# Altium footprint library SBHXLogo.PcbLib: 1 footprints
Each footprint in its own frame and in the unit in brackets; x right, y up, seen from the top. Pads: shape width x height; smd on the part's side, far side on the other; paste and mask are expansions set on the pad; w line width, h text height; cw(c..) or ccw(c..) is an arc to the next point about the centre after c.
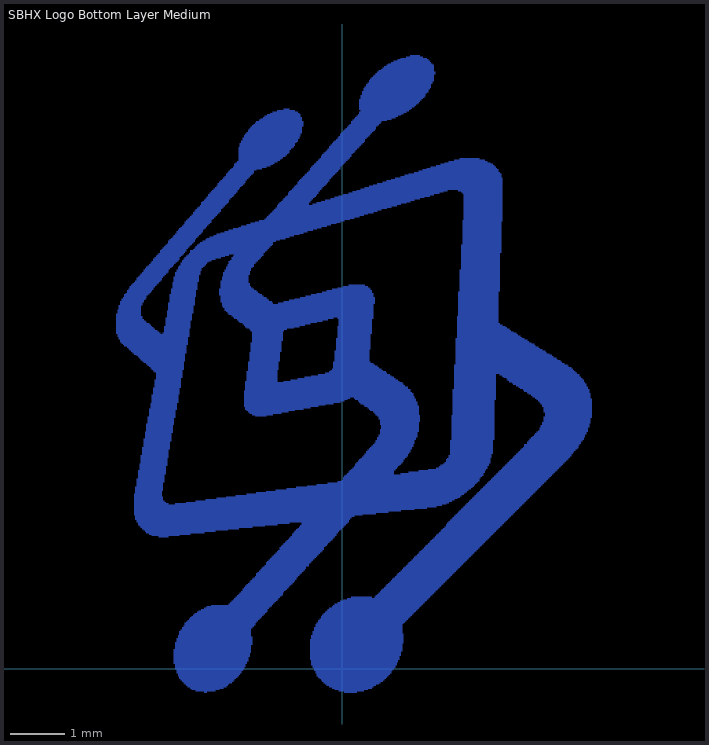
[diagram p0: the footprint, top view; thin cyan lines are the x and y axes]

## SBHX Logo Bottom Layer Medium [mm]
Bottom Layer:
  lines w0.025: -4.178,6.198 -3.365,6.198 ; -4.178,6.223 -3.391,6.223 ; -4.178,6.248 -3.416,6.248 ; -4.178,6.274 -3.467,6.274 ; -4.178,6.299 -3.492,6.299 ; -4.178,6.325 -3.518,6.325 ; -4.178,6.35 -3.543,6.35 ; -4.178,6.375 -3.569,6.375 ; -4.178,6.401 -3.619,6.401 ; -4.178,6.426 -3.645,6.426 ; -4.178,6.452 -3.67,6.452 ; -4.178,6.477 -3.696,6.477 ; -4.178,6.502 -3.696,6.502 ; -4.178,6.528 -3.721,6.528 ; -4.178,6.553 -3.721,6.553 ; -4.153,6.147 -2.832,6.147 ; -4.153,6.172 -2.832,6.172 ; -4.153,6.579 -3.721,6.579 ; -4.153,6.604 -3.721,6.604 ; -4.153,6.629 -3.721,6.629 ; -4.127,6.096 -2.857,6.096 ; -4.127,6.121 -2.857,6.121 ; -4.127,6.655 -3.721,6.655 ; -4.127,6.68 -3.721,6.68 ; -4.127,6.706 -3.721,6.706 ; -4.102,6.045 -2.857,6.045 ; -4.102,6.071 -2.857,6.071 ; -4.102,6.731 -3.696,6.731 ; -4.102,6.756 -3.696,6.756 ; -4.102,6.782 -3.67,6.782 ; -4.077,6.02 -2.857,6.02 ; -4.077,6.807 -3.67,6.807 ; -4.077,6.833 -3.645,6.833 ; -4.051,5.994 -2.857,5.994 ; -4.051,6.858 -3.619,6.858 ; -4.026,5.969 -2.883,5.969 ; -4.026,6.883 -3.619,6.883 ; -4.026,6.909 -3.594,6.909 ; -4,6.934 -3.569,6.934 ; -3.975,5.944 -2.883,5.944 ; -3.975,6.96 -3.543,6.96 ; -3.975,6.985 -3.518,6.985 ; -3.95,5.918 -2.883,5.918 ; -3.95,7.01 -3.492,7.01 ; -3.924,5.893 -2.883,5.893 ; -3.924,7.036 -3.492,7.036 ; -3.924,7.061 -3.467,7.061 ; -3.899,5.867 -2.883,5.867 ; -3.899,7.087 -3.442,7.087 ; -3.873,5.842 -2.883,5.842 ; -3.873,7.112 -3.416,7.112 ; -3.848,2.845 0.368,2.845 ; -3.848,2.87 0.622,2.87 ; -3.848,2.896 0.851,2.896 ; -3.848,2.921 1.079,2.921 ; -3.848,2.946 1.333,2.946 ; -3.848,2.972 1.562,2.972 ; -3.848,2.997 1.74,2.997 ; -3.848,3.023 1.841,3.023 ; -3.848,3.048 -3.213,3.048 ; -3.848,3.073 -3.264,3.073 ; -3.848,3.099 -3.289,3.099 ; -3.848,3.124 -3.315,3.124 ; -3.848,3.15 -3.315,3.15 ; -3.848,3.175 -3.315,3.175 ; -3.848,3.2 -3.34,3.2 ; -3.848,3.226 -3.34,3.226 ; -3.848,5.817 -2.908,5.817 ; -3.848,7.137 -3.391,7.137 ; -3.823,2.769 0.14,2.769 ; -3.823,2.794 0.165,2.794 ; -3.823,2.819 0.216,2.819 ; -3.823,3.251 -3.34,3.251 ; -3.823,3.277 -3.34,3.277 ; -3.823,3.302 -3.315,3.302 ; -3.823,3.327 -3.315,3.327 ; -3.823,3.353 -3.315,3.353 ; -3.823,7.163 -3.365,7.163 ; -3.797,2.718 0.114,2.718 ; -3.797,2.743 0.114,2.743 ; -3.797,3.378 -3.315,3.378 ; -3.797,3.404 -3.315,3.404 ; -3.797,3.429 -3.315,3.429 ; -3.797,3.454 -3.289,3.454 ; -3.797,3.48 -3.289,3.48 ; -3.797,3.505 -3.289,3.505 ; -3.797,5.791 -2.908,5.791 ; -3.797,7.188 -3.34,7.188 ; -3.797,7.214 -3.34,7.214 ; -3.772,2.667 -1.206,2.667 ; -3.772,2.692 -0.978,2.692 ; -3.772,3.531 -3.289,3.531 ; -3.772,3.556 -3.289,3.556 ; -3.772,3.581 -3.289,3.581 ; -3.772,3.607 -3.264,3.607 ; -3.772,3.632 -3.264,3.632 ; -3.772,3.658 -3.264,3.658 ; -3.772,5.766 -2.908,5.766 ; -3.772,7.239 -3.315,7.239 ; -3.746,2.642 -1.435,2.642 ; -3.746,3.683 -3.264,3.683 ; -3.746,3.708 -3.264,3.708 ; -3.746,3.734 -3.264,3.734 ; -3.746,3.759 -3.238,3.759 ; -3.746,3.785 -3.238,3.785 ; -3.746,5.74 -2.908,5.74 ; -3.746,7.264 -3.289,7.264 ; -3.721,2.616 -1.664,2.616 ; -3.721,3.81 -3.238,3.81 ; -3.721,3.835 -3.238,3.835 ; -3.721,3.861 -3.238,3.861 ; -3.721,3.886 -3.238,3.886 ; -3.721,3.912 -3.213,3.912 ; -3.721,3.937 -3.213,3.937 ; -3.721,5.715 -2.908,5.715 ; -3.721,7.29 -3.264,7.29 ; -3.696,2.591 -1.918,2.591 ; -3.696,3.962 -3.213,3.962 ; -3.696,3.988 -3.213,3.988 ; -3.696,4.013 -3.213,4.013 ; -3.696,4.039 -3.213,4.039 ; -3.696,4.064 -3.188,4.064 ; -3.696,4.089 -3.188,4.089 ; -3.696,5.69 -2.908,5.69 ; -3.696,7.315 -3.238,7.315 ; -3.67,2.565 -2.121,2.565 ; -3.67,4.115 -3.188,4.115 ; -3.67,4.14 -3.188,4.14 ; -3.67,4.166 -3.188,4.166 ; -3.67,4.191 -3.188,4.191 ; -3.67,4.216 -3.162,4.216 ; -3.67,4.242 -3.162,4.242 ; -3.67,5.664 -2.934,5.664 ; -3.67,7.341 -3.213,7.341 ; -3.67,7.366 -3.213,7.366 ; -3.645,2.54 -2.349,2.54 ; -3.645,4.267 -3.162,4.267 ; -3.645,4.293 -3.162,4.293 ; -3.645,4.318 -3.162,4.318 ; -3.645,4.343 -3.162,4.343 ; -3.645,4.369 -3.137,4.369 ; -3.645,7.391 -3.188,7.391 ; -3.619,2.515 -2.553,2.515 ; -3.619,4.394 -3.137,4.394 ; -3.619,4.42 -3.137,4.42 ; -3.619,4.445 -3.137,4.445 ; -3.619,4.47 -3.137,4.47 ; -3.619,4.496 -3.137,4.496 ; -3.619,4.521 -3.111,4.521 ; -3.619,5.639 -2.934,5.639 ; -3.619,7.417 -3.162,7.417 ; -3.594,4.547 -3.111,4.547 ; -3.594,4.572 -3.111,4.572 ; -3.594,4.597 -3.111,4.597 ; -3.594,4.623 -3.111,4.623 ; -3.594,4.648 -3.086,4.648 ; -3.594,5.613 -2.934,5.613 ; -3.594,7.442 -3.137,7.442 ; -3.569,2.489 -2.807,2.489 ; -3.569,4.674 -3.086,4.674 ; -3.569,4.699 -3.086,4.699 ; -3.569,4.724 -3.086,4.724 ; -3.569,4.75 -3.086,4.75 ; -3.569,4.775 -3.086,4.775 ; -3.569,4.801 -3.061,4.801 ; -3.569,5.588 -2.934,5.588 ; -3.569,7.468 -3.111,7.468 ; -3.543,4.826 -3.061,4.826 ; -3.543,4.851 -3.061,4.851 ; -3.543,4.877 -3.061,4.877 ; -3.543,4.902 -3.061,4.902 ; -3.543,5.563 -2.934,5.563 ; -3.543,7.493 -3.086,7.493 ; -3.518,2.464 -3.01,2.464 ; -3.518,4.928 -3.035,4.928 ; -3.518,4.953 -3.035,4.953 ; -3.518,4.978 -3.035,4.978 ; -3.518,5.004 -3.035,5.004 ; -3.518,5.029 -3.035,5.029 ; -3.518,5.055 -3.035,5.055 ; -3.518,5.537 -2.934,5.537 ; -3.518,7.518 -3.061,7.518 ; -3.492,5.08 -3.01,5.08 ; -3.492,5.105 -3.01,5.105 ; -3.492,5.131 -3.01,5.131 ; -3.492,5.156 -3.01,5.156 ; -3.492,5.182 -3.01,5.182 ; -3.492,5.512 -2.959,5.512 ; -3.492,7.544 -3.035,7.544 ; -3.492,7.569 -3.01,7.569 ; -3.467,5.207 -2.984,5.207 ; -3.467,5.232 -2.984,5.232 ; -3.467,5.258 -2.984,5.258 ; -3.467,5.283 -2.984,5.283 ; -3.467,5.309 -2.984,5.309 ; -3.467,5.334 -2.984,5.334 ; -3.467,5.486 -2.959,5.486 ; -3.467,7.595 -3.01,7.595 ; -3.442,5.359 -2.984,5.359 ; -3.442,5.385 -2.959,5.385 ; -3.442,5.41 -2.959,5.41 ; -3.442,5.436 -2.959,5.436 ; -3.442,5.461 -2.959,5.461 ; -3.442,7.62 -2.984,7.62 ; -3.416,7.645 -2.959,7.645 ; -3.391,2.438 -3.213,2.438 ; -3.391,7.671 -2.934,7.671 ; -3.365,7.696 -2.908,7.696 ; -3.365,7.722 -2.883,7.722 ; -3.34,7.747 -2.883,7.747 ; -3.315,6.198 -2.832,6.198 ; -3.315,7.772 -2.857,7.772 ; -3.289,6.223 -2.832,6.223 ; -3.289,6.248 -2.832,6.248 ; -3.289,6.274 -2.832,6.274 ; -3.289,6.299 -2.807,6.299 ; -3.289,6.325 -2.807,6.325 ; -3.289,7.798 -2.832,7.798 ; -3.264,6.35 -2.807,6.35 ; -3.264,6.375 -2.807,6.375 ; -3.264,6.401 -2.807,6.401 ; -3.264,6.426 -2.807,6.426 ; -3.264,6.452 -2.781,6.452 ; -3.264,6.477 -2.781,6.477 ; -3.264,7.823 -2.807,7.823 ; -3.238,6.502 -2.781,6.502 ; -3.238,6.528 -2.781,6.528 ; -3.238,6.553 -2.781,6.553 ; -3.238,6.579 -2.756,6.579 ; -3.238,6.604 -2.756,6.604 ; -3.238,7.849 -2.781,7.849 ; -3.213,6.629 -2.756,6.629 ; -3.213,6.655 -2.756,6.655 ; -3.213,6.68 -2.756,6.68 ; -3.213,6.706 -2.756,6.706 ; -3.213,6.731 -2.73,6.731 ; -3.213,6.756 -2.73,6.756 ; -3.213,7.874 -2.756,7.874 ; -3.213,7.899 -2.73,7.899 ; -3.188,6.782 -2.73,6.782 ; -3.188,6.807 -2.73,6.807 ; -3.188,6.833 -2.73,6.833 ; -3.188,6.858 -2.73,6.858 ; -3.188,6.883 -2.705,6.883 ; -3.188,6.909 -2.705,6.909 ; -3.188,7.925 -2.73,7.925 ; -3.162,6.934 -2.705,6.934 ; -3.162,6.96 -2.705,6.96 ; -3.162,6.985 -2.705,6.985 ; -3.162,7.01 -2.68,7.01 ; -3.162,7.95 -2.705,7.95 ; -3.137,7.036 -2.68,7.036 ; -3.137,7.061 -2.68,7.061 ; -3.137,7.087 -2.68,7.087 ; -3.137,7.112 -2.68,7.112 ; -3.137,7.137 -2.68,7.137 ; -3.137,7.976 -2.68,7.976 ; -3.111,0.102 -1.765,0.102 ; -3.111,0.127 -1.765,0.127 ; -3.111,0.152 -1.74,0.152 ; -3.111,0.178 -1.74,0.178 ; -3.111,0.203 -1.74,0.203 ; -3.111,0.229 -1.714,0.229 ; -3.111,0.254 -1.714,0.254 ; -3.111,0.279 -1.714,0.279 ; -3.111,0.305 -1.689,0.305 ; -3.111,0.33 -1.689,0.33 ; -3.111,0.356 -1.689,0.356 ; -3.111,7.163 -2.654,7.163 ; -3.111,7.188 -2.654,7.188 ; -3.111,7.214 -2.654,7.214 ; -3.111,7.239 -2.654,7.239 ; -3.111,8.001 -2.654,8.001 ; -3.086,0 -1.816,0 ; -3.086,0.025 -1.816,0.025 ; -3.086,0.051 -1.791,0.051 ; -3.086,0.076 -1.791,0.076 ; -3.086,0.381 -1.689,0.381 ; -3.086,0.406 -1.689,0.406 ; -3.086,0.432 -1.689,0.432 ; -3.086,0.457 -1.664,0.457 ; -3.086,0.483 -1.664,0.483 ; -3.086,3.048 1.918,3.048 ; -3.086,7.264 -2.654,7.264 ; -3.086,7.29 -2.629,7.29 ; -3.086,7.315 -2.629,7.315 ; -3.086,8.026 -2.629,8.026 ; -3.061,-0.076 -1.867,-0.076 ; -3.061,-0.051 -1.867,-0.051 ; -3.061,-0.025 -1.841,-0.025 ; -3.061,0.508 -1.664,0.508 ; -3.061,0.533 -1.664,0.533 ; -3.061,0.559 -1.664,0.559 ; -3.061,7.341 -2.629,7.341 ; -3.061,7.366 -2.603,7.366 ; -3.061,8.052 -2.603,8.052 ; -3.061,8.077 -2.578,8.077 ; -3.035,-0.127 -1.918,-0.127 ; -3.035,-0.102 -1.892,-0.102 ; -3.035,0.584 -1.664,0.584 ; -3.035,0.61 -1.689,0.61 ; -3.035,7.391 -2.603,7.391 ; -3.035,7.417 -2.578,7.417 ; -3.035,8.103 -2.578,8.103 ; -3.01,-0.178 -1.968,-0.178 ; -3.01,-0.152 -1.943,-0.152 ; -3.01,0.635 -1.689,0.635 ; -3.01,0.66 -1.689,0.66 ; -3.01,0.686 -1.689,0.686 ; -3.01,7.442 -2.553,7.442 ; -3.01,8.128 -2.553,8.128 ; -2.984,-0.203 -1.994,-0.203 ; -2.984,0.711 -1.689,0.711 ; -2.984,7.468 -2.527,7.468 ; -2.984,7.493 -2.502,7.493 ; -2.984,8.153 -2.527,8.153 ; -2.959,-0.229 -2.019,-0.229 ; -2.959,0.737 -1.689,0.737 ; -2.959,0.762 -1.664,0.762 ; -2.959,7.518 -2.476,7.518 ; -2.959,7.544 -2.426,7.544 ; -2.959,8.179 -2.502,8.179 ; -2.934,-0.254 -2.045,-0.254 ; -2.934,0.787 -1.638,0.787 ; -2.934,7.569 -2.349,7.569 ; -2.934,8.204 -2.476,8.204 ; -2.908,-0.279 -2.095,-0.279 ; -2.908,0.813 -1.613,0.813 ; -2.908,0.838 -1.613,0.838 ; -2.908,7.595 -2.248,7.595 ; -2.908,8.23 -2.451,8.23 ; -2.908,8.255 -2.426,8.255 ; -2.883,-0.305 -2.121,-0.305 ; -2.883,0.864 -1.587,0.864 ; -2.883,3.073 1.968,3.073 ; -2.883,7.62 -2.172,7.62 ; -2.883,8.28 -2.426,8.28 ; -2.857,-0.33 -2.146,-0.33 ; -2.857,0.889 -1.562,0.889 ; -2.857,7.645 -2.095,7.645 ; -2.857,8.306 -2.4,8.306 ; -2.832,0.914 -1.537,0.914 ; -2.832,7.671 -1.46,7.671 ; -2.832,8.331 -2.375,8.331 ; -2.807,-0.356 -2.197,-0.356 ; -2.807,0.94 -1.511,0.94 ; -2.807,7.696 -1.435,7.696 ; -2.807,7.722 -1.41,7.722 ; -2.807,8.357 -2.349,8.357 ; -2.781,-0.381 -2.273,-0.381 ; -2.781,0.965 -1.486,0.965 ; -2.781,8.382 -2.324,8.382 ; -2.756,0.991 -1.46,0.991 ; -2.756,7.747 -1.384,7.747 ; -2.756,8.407 -2.299,8.407 ; -2.756,8.433 -2.273,8.433 ; -2.73,1.016 -1.435,1.016 ; -2.73,7.772 -1.359,7.772 ; -2.73,8.458 -2.248,8.458 ; -2.705,-0.406 -2.349,-0.406 ; -2.705,3.099 2.019,3.099 ; -2.705,7.798 -1.333,7.798 ; -2.705,8.484 -2.248,8.484 ; -2.68,1.041 -1.41,1.041 ; -2.68,7.823 -1.308,7.823 ; -2.68,8.509 -2.222,8.509 ; -2.654,1.067 -1.384,1.067 ; -2.654,7.849 -1.283,7.849 ; -2.654,8.534 -2.197,8.534 ; -2.629,7.874 -1.283,7.874 ; -2.629,8.56 -2.172,8.56 ; -2.603,1.092 -1.384,1.092 ; -2.603,8.585 -2.146,8.585 ; -2.603,8.611 -2.121,8.611 ; -2.578,7.899 -1.232,7.899 ; -2.578,8.636 -2.095,8.636 ; -2.553,-0.432 -2.502,-0.432 ; -2.553,1.118 -1.359,1.118 ; -2.553,8.661 -2.095,8.661 ; -2.527,3.124 2.07,3.124 ; -2.527,7.925 -1.156,7.925 ; -2.527,8.687 -2.07,8.687 ; -2.502,1.143 -1.333,1.143 ; -2.502,7.95 -1.054,7.95 ; -2.502,8.712 -2.045,8.712 ; -2.476,8.738 -2.019,8.738 ; -2.476,8.763 -1.994,8.763 ; -2.451,7.976 -0.978,7.976 ; -2.451,8.788 -1.968,8.788 ; -2.426,1.168 -1.308,1.168 ; -2.426,8.814 -1.943,8.814 ; -2.4,8.839 -1.943,8.839 ; -2.375,8.001 -0.902,8.001 ; -2.375,8.865 -1.918,8.865 ; -2.349,8.89 -1.892,8.89 ; -2.324,3.15 2.121,3.15 ; -2.324,8.026 -0.8,8.026 ; -2.324,8.915 -1.867,8.915 ; -2.299,8.941 -1.841,8.941 ; -2.299,8.966 -1.816,8.966 ; -2.273,6.909 -1.486,6.909 ; -2.273,6.934 -1.537,6.934 ; -2.273,6.96 -1.562,6.96 ; -2.273,6.985 -1.587,6.985 ; -2.273,7.01 -1.638,7.01 ; -2.273,8.992 -1.791,8.992 ; -2.248,6.782 -1.308,6.782 ; -2.248,6.807 -1.359,6.807 ; -2.248,6.833 -1.384,6.833 ; -2.248,6.858 -1.41,6.858 ; -2.248,6.883 -1.46,6.883 ; -2.248,7.036 -1.664,7.036 ; -2.248,7.061 -1.689,7.061 ; -2.248,7.087 -1.714,7.087 ; -2.248,7.112 -1.714,7.112 ; -2.248,7.137 -1.74,7.137 ; -2.248,7.163 -1.74,7.163 ; -2.248,8.052 -0.724,8.052 ; -2.248,9.017 -1.791,9.017 ; -2.222,6.706 0.572,6.706 ; -2.222,6.731 0.572,6.731 ; -2.222,6.756 -1.283,6.756 ; -2.222,7.188 -1.74,7.188 ; -2.222,7.214 -1.74,7.214 ; -2.222,7.239 -1.74,7.239 ; -2.222,9.042 -1.765,9.042 ; -2.197,6.68 0.572,6.68 ; -2.197,7.264 -1.74,7.264 ; -2.197,7.29 -1.714,7.29 ; -2.197,7.315 -1.714,7.315 ; -2.197,9.068 -1.74,9.068 ; -2.172,6.629 0.572,6.629 ; -2.172,6.655 0.572,6.655 ; -2.172,7.341 -1.714,7.341 ; -2.172,7.366 -1.689,7.366 ; -2.172,8.077 -0.648,8.077 ; -2.172,9.093 -1.714,9.093 ; -2.146,3.175 2.172,3.175 ; -2.146,6.604 0.572,6.604 ; -2.146,7.391 -1.689,7.391 ; -2.146,7.417 -1.664,7.417 ; -2.146,9.119 -1.689,9.119 ; -2.146,9.144 -1.664,9.144 ; -2.121,6.579 0.572,6.579 ; -2.121,7.442 -1.638,7.442 ; -2.121,7.468 -1.638,7.468 ; -2.121,9.169 -1.638,9.169 ; -2.095,1.194 -1.283,1.194 ; -2.095,6.553 0.572,6.553 ; -2.095,7.493 -1.613,7.493 ; -2.095,7.518 -1.587,7.518 ; -2.095,8.103 -0.546,8.103 ; -2.095,9.195 -1.638,9.195 ; -2.07,1.219 -1.257,1.219 ; -2.07,7.544 -1.562,7.544 ; -2.07,9.22 -1.587,9.22 ; -2.045,1.245 -1.232,1.245 ; -2.045,6.528 0.572,6.528 ; -2.045,7.569 -1.537,7.569 ; -2.045,7.595 -1.511,7.595 ; -2.045,9.246 -1.486,9.246 ; -2.019,1.27 -1.206,1.27 ; -2.019,6.502 0.572,6.502 ; -2.019,7.62 -1.486,7.62 ; -2.019,8.128 -0.47,8.128 ; -2.019,9.271 -1.41,9.271 ; -1.994,1.295 -1.181,1.295 ; -1.994,6.477 -0.165,6.477 ; -1.994,7.645 -1.46,7.645 ; -1.994,9.296 -1.333,9.296 ; -1.994,9.322 -1.283,9.322 ; -1.968,1.321 -1.156,1.321 ; -1.968,3.2 2.197,3.2 ; -1.968,9.347 -1.257,9.347 ; -1.943,1.346 -1.13,1.346 ; -1.943,6.452 -0.267,6.452 ; -1.943,9.373 -1.206,9.373 ; -1.918,1.372 -1.105,1.372 ; -1.918,6.426 -0.368,6.426 ; -1.918,8.153 -0.394,8.153 ; -1.918,9.398 -1.156,9.398 ; -1.918,9.423 -1.13,9.423 ; -1.918,9.449 -1.105,9.449 ; -1.918,9.474 -1.054,9.474 ; -1.918,9.5 -1.029,9.5 ; -1.918,9.525 -1.003,9.525 ; -1.918,9.55 -0.978,9.55 ; -1.918,9.576 -0.978,9.576 ; -1.918,9.601 -0.953,9.601 ; -1.918,9.627 -0.927,9.627 ; -1.892,1.397 -1.105,1.397 ; -1.892,6.401 -0.47,6.401 ; -1.892,9.652 -0.902,9.652 ; -1.892,9.677 -0.876,9.677 ; -1.892,9.703 -0.876,9.703 ; -1.867,1.422 -1.079,1.422 ; -1.867,8.179 -0.292,8.179 ; -1.867,9.728 -0.851,9.728 ; -1.867,9.754 -0.826,9.754 ; -1.841,1.448 -1.054,1.448 ; -1.841,1.473 -1.029,1.473 ; -1.841,6.375 -0.597,6.375 ; -1.841,9.779 -0.826,9.779 ; -1.841,9.804 -0.8,9.804 ; -1.816,1.499 -1.003,1.499 ; -1.816,4.851 -0.445,4.851 ; -1.816,4.877 -0.318,4.877 ; -1.816,4.902 -0.165,4.902 ; -1.816,4.928 -0.038,4.928 ; -1.816,4.953 0.038,4.953 ; -1.816,4.978 0.089,4.978 ; -1.816,5.004 0.14,5.004 ; -1.816,5.029 1.333,5.029 ; -1.816,5.055 1.308,5.055 ; -1.816,5.08 1.308,5.08 ; -1.816,5.105 1.283,5.105 ; -1.816,5.131 1.257,5.131 ; -1.816,6.35 -0.699,6.35 ; -1.816,9.83 -0.8,9.83 ; -1.816,9.855 -0.775,9.855 ; -1.791,1.524 -0.978,1.524 ; -1.791,4.801 -0.724,4.801 ; -1.791,4.826 -0.597,4.826 ; -1.791,5.156 1.257,5.156 ; -1.791,5.182 1.206,5.182 ; -1.791,5.207 1.206,5.207 ; -1.791,5.232 1.156,5.232 ; -1.791,5.258 1.13,5.258 ; -1.791,5.283 1.105,5.283 ; -1.791,5.309 -1.206,5.309 ; -1.791,6.325 -0.8,6.325 ; -1.791,9.881 -0.775,9.881 ; -1.765,1.549 -0.953,1.549 ; -1.765,3.226 2.248,3.226 ; -1.765,4.775 -0.876,4.775 ; -1.765,5.334 -1.206,5.334 ; -1.765,5.359 -1.206,5.359 ; -1.765,5.385 -1.206,5.385 ; -1.765,5.41 -1.206,5.41 ; -1.765,5.436 -1.206,5.436 ; -1.765,5.461 -1.206,5.461 ; -1.765,5.486 -1.206,5.486 ; -1.765,6.299 -0.902,6.299 ; -1.765,8.204 -0.216,8.204 ; -1.765,9.906 -0.749,9.906 ; -1.74,1.575 -0.927,1.575 ; -1.74,4.75 -1.003,4.75 ; -1.74,5.512 -1.206,5.512 ; -1.74,5.537 -1.181,5.537 ; -1.74,5.563 -1.181,5.563 ; -1.74,5.588 -1.181,5.588 ; -1.74,5.613 -1.181,5.613 ; -1.74,5.639 -1.181,5.639 ; -1.74,5.664 -1.181,5.664 ; -1.74,9.931 -0.749,9.931 ; -1.74,9.957 -0.749,9.957 ; -1.714,1.6 -0.902,1.6 ; -1.714,4.724 -1.13,4.724 ; -1.714,5.69 -1.156,5.69 ; -1.714,5.715 -1.156,5.715 ; -1.714,5.74 -1.156,5.74 ; -1.714,5.766 -1.156,5.766 ; -1.714,5.791 -1.156,5.791 ; -1.714,5.817 -1.156,5.817 ; -1.714,5.842 -1.156,5.842 ; -1.714,6.274 -1.029,6.274 ; -1.714,9.982 -0.749,9.982 ; -1.689,1.626 -0.876,1.626 ; -1.689,5.867 -1.13,5.867 ; -1.689,5.893 -1.13,5.893 ; -1.689,5.918 -1.13,5.918 ; -1.689,5.944 -1.13,5.944 ; -1.689,5.969 -1.13,5.969 ; -1.689,5.994 -1.13,5.994 ; -1.689,6.02 -1.13,6.02 ; -1.689,6.248 -1.079,6.248 ; -1.689,8.23 -0.114,8.23 ; -1.689,10.008 -0.749,10.008 ; -1.664,1.651 -0.851,1.651 ; -1.664,4.699 -1.283,4.699 ; -1.664,6.045 -1.13,6.045 ; -1.664,6.071 -1.105,6.071 ; -1.664,6.096 -1.105,6.096 ; -1.664,6.121 -1.105,6.121 ; -1.664,6.147 -1.105,6.147 ; -1.664,6.172 -1.105,6.172 ; -1.664,6.198 -1.105,6.198 ; -1.664,6.223 -1.105,6.223 ; -1.664,10.033 -0.724,10.033 ; -1.638,1.676 -0.851,1.676 ; -1.638,10.058 -0.724,10.058 ; -1.613,1.702 -0.826,1.702 ; -1.613,4.674 -1.41,4.674 ; -1.613,8.255 -0.038,8.255 ; -1.613,10.084 -0.724,10.084 ; -1.587,1.727 -0.8,1.727 ; -1.587,1.753 -0.775,1.753 ; -1.587,3.251 2.273,3.251 ; -1.587,10.109 -0.724,10.109 ; -1.562,1.778 -0.749,1.778 ; -1.537,1.803 -0.724,1.803 ; -1.537,8.28 0.038,8.28 ; -1.537,10.135 -0.749,10.135 ; -1.511,1.829 -0.699,1.829 ; -1.511,10.16 -0.749,10.16 ; -1.486,1.854 -0.673,1.854 ; -1.46,1.88 -0.673,1.88 ; -1.46,10.185 -0.749,10.185 ; -1.435,1.905 -0.622,1.905 ; -1.435,8.306 0.14,8.306 ; -1.435,10.211 -0.775,10.211 ; -1.41,1.93 -0.622,1.93 ; -1.41,1.956 -0.597,1.956 ; -1.41,3.277 2.299,3.277 ; -1.41,8.331 0.216,8.331 ; -1.384,1.981 -0.572,1.981 ; -1.384,8.357 0.318,8.357 ; -1.384,10.236 -0.775,10.236 ; -1.359,2.007 -0.546,2.007 ; -1.359,8.382 0.394,8.382 ; -1.333,2.032 -0.521,2.032 ; -1.333,8.407 0.47,8.407 ; -1.333,10.262 -0.8,10.262 ; -1.308,2.057 -0.495,2.057 ; -1.308,8.433 0.572,8.433 ; -1.283,2.083 -0.47,2.083 ; -1.283,8.458 0.648,8.458 ; -1.283,10.287 -0.826,10.287 ; -1.257,2.108 -0.445,2.108 ; -1.257,8.484 0.724,8.484 ; -1.232,2.134 -0.419,2.134 ; -1.232,3.302 2.324,3.302 ; -1.232,8.509 0.826,8.509 ; -1.206,2.159 -0.394,2.159 ; -1.206,8.534 0.902,8.534 ; -1.206,8.56 1.003,8.56 ; -1.206,10.312 -0.876,10.312 ; -1.181,2.184 -0.368,2.184 ; -1.181,6.756 0.597,6.756 ; -1.181,8.585 -0.622,8.585 ; -1.156,2.21 -0.343,2.21 ; -1.156,2.235 -0.343,2.235 ; -1.156,8.611 -0.622,8.611 ; -1.13,2.261 -0.318,2.261 ; -1.13,8.636 -0.597,8.636 ; -1.105,2.286 -0.292,2.286 ; -1.105,8.661 -0.572,8.661 ; -1.079,2.311 -0.267,2.311 ; -1.079,5.309 1.054,5.309 ; -1.079,6.782 0.597,6.782 ; -1.079,8.687 -0.546,8.687 ; -1.079,10.338 -0.978,10.338 ; -1.054,2.337 -0.241,2.337 ; -1.054,8.712 -0.521,8.712 ; -1.029,2.362 -0.216,2.362 ; -1.029,3.327 2.375,3.327 ; -1.029,8.738 -0.495,8.738 ; -1.003,2.388 -0.191,2.388 ; -1.003,8.763 -0.47,8.763 ; -1.003,8.788 -0.445,8.788 ; -0.978,2.413 -0.165,2.413 ; -0.978,6.807 0.597,6.807 ; -0.978,8.814 -0.445,8.814 ; -0.953,2.438 -0.14,2.438 ; -0.953,5.334 1.029,5.334 ; -0.953,8.839 -0.419,8.839 ; -0.927,2.464 -0.114,2.464 ; -0.927,2.489 -0.114,2.489 ; -0.927,8.865 -0.394,8.865 ; -0.902,2.515 -0.089,2.515 ; -0.902,8.89 -0.368,8.89 ; -0.876,2.54 -0.064,2.54 ; -0.876,6.833 0.597,6.833 ; -0.876,8.915 -0.343,8.915 ; -0.851,2.565 -0.038,2.565 ; -0.851,3.353 2.4,3.353 ; -0.851,8.941 -0.318,8.941 ; -0.826,2.591 -0.013,2.591 ; -0.826,5.359 0.978,5.359 ; -0.826,8.966 -0.292,8.966 ; -0.826,8.992 -0.267,8.992 ; -0.8,2.616 0.013,2.616 ; -0.8,9.017 -0.241,9.017 ; -0.775,2.642 0.038,2.642 ; -0.775,6.858 0.597,6.858 ; -0.775,9.042 -0.241,9.042 ; -0.749,2.667 0.064,2.667 ; -0.749,2.692 0.089,2.692 ; -0.749,9.068 -0.216,9.068 ; -0.724,9.093 -0.191,9.093 ; -0.699,5.385 0.953,5.385 ; -0.699,9.119 -0.165,9.119 ; -0.673,6.883 0.572,6.883 ; -0.673,9.144 -0.14,9.144 ; -0.648,3.378 2.426,3.378 ; -0.648,9.169 -0.114,9.169 ; -0.622,9.195 -0.089,9.195 ; -0.597,0.178 1.054,0.178 ; -0.597,0.203 1.054,0.203 ; -0.597,0.229 1.054,0.229 ; -0.597,0.254 1.079,0.254 ; -0.597,0.279 1.079,0.279 ; -0.597,0.305 1.079,0.305 ; -0.597,0.33 1.105,0.33 ; -0.597,0.356 1.105,0.356 ; -0.597,0.381 1.105,0.381 ; -0.597,0.406 1.105,0.406 ; -0.597,0.432 1.105,0.432 ; -0.597,0.457 1.105,0.457 ; -0.597,0.483 1.13,0.483 ; -0.597,0.508 1.13,0.508 ; -0.597,0.533 1.13,0.533 ; -0.597,9.22 -0.064,9.22 ; -0.597,9.246 -0.038,9.246 ; -0.572,0.076 1.003,0.076 ; -0.572,0.102 1.003,0.102 ; -0.572,0.127 1.029,0.127 ; -0.572,0.152 1.029,0.152 ; -0.572,0.559 1.13,0.559 ; -0.572,0.584 1.13,0.584 ; -0.572,0.61 1.13,0.61 ; -0.572,5.41 0.902,5.41 ; -0.572,6.909 0.572,6.909 ; -0.572,9.271 -0.038,9.271 ; -0.546,0.025 0.978,0.025 ; -0.546,0.051 0.978,0.051 ; -0.546,0.635 1.13,0.635 ; -0.546,0.66 1.105,0.66 ; -0.546,0.686 1.105,0.686 ; -0.546,8.585 1.079,8.585 ; -0.546,9.296 -0.013,9.296 ; -0.521,-0.025 0.927,-0.025 ; -0.521,0 0.953,0 ; -0.521,0.711 1.105,0.711 ; -0.521,0.737 1.105,0.737 ; -0.521,0.762 1.105,0.762 ; -0.521,9.322 0.013,9.322 ; -0.495,-0.076 0.902,-0.076 ; -0.495,-0.051 0.902,-0.051 ; -0.495,0.787 1.105,0.787 ; -0.495,0.813 1.105,0.813 ; -0.495,9.347 0.038,9.347 ; -0.47,-0.127 0.851,-0.127 ; -0.47,-0.102 0.876,-0.102 ; -0.47,0.838 1.13,0.838 ; -0.47,3.404 2.451,3.404 ; -0.47,6.934 0.572,6.934 ; -0.47,8.611 1.181,8.611 ; -0.47,9.373 0.064,9.373 ; -0.445,-0.152 0.826,-0.152 ; -0.445,0.864 1.156,0.864 ; -0.445,0.889 1.181,0.889 ; -0.445,5.436 0.876,5.436 ; -0.445,9.398 0.089,9.398 ; -0.419,-0.178 0.8,-0.178 ; -0.419,0.914 1.206,0.914 ; -0.419,9.423 0.114,9.423 ; -0.394,-0.203 0.775,-0.203 ; -0.394,0.94 1.232,0.94 ; -0.394,0.965 1.257,0.965 ; -0.394,8.636 1.257,8.636 ; -0.394,9.449 0.14,9.449 ; -0.394,9.474 0.165,9.474 ; -0.368,-0.229 0.749,-0.229 ; -0.368,0.991 1.283,0.991 ; -0.368,6.96 0.546,6.96 ; -0.368,9.5 0.165,9.5 ; -0.343,-0.254 0.699,-0.254 ; -0.343,1.016 1.308,1.016 ; -0.343,9.525 0.191,9.525 ; -0.318,-0.279 0.673,-0.279 ; -0.318,1.041 1.333,1.041 ; -0.318,5.461 0.826,5.461 ; -0.318,8.661 1.333,8.661 ; -0.318,9.55 0.216,9.55 ; -0.292,-0.305 0.622,-0.305 ; -0.292,1.067 1.359,1.067 ; -0.292,6.985 0.546,6.985 ; -0.292,9.576 0.241,9.576 ; -0.267,1.092 1.384,1.092 ; -0.267,3.429 2.476,3.429 ; -0.267,9.601 0.267,9.601 ; -0.241,-0.33 0.572,-0.33 ; -0.241,1.118 1.41,1.118 ; -0.241,5.486 0.8,5.486 ; -0.241,9.627 0.292,9.627 ; -0.241,9.652 0.318,9.652 ; -0.216,5.512 0.749,5.512 ; -0.216,8.687 1.435,8.687 ; -0.216,9.677 0.343,9.677 ; -0.191,-0.356 0.546,-0.356 ; -0.191,1.143 1.435,1.143 ; -0.191,5.537 0.724,5.537 ; -0.191,7.01 0.521,7.01 ; -0.191,9.703 0.368,9.703 ; -0.165,1.168 1.46,1.168 ; -0.165,5.563 0.673,5.563 ; -0.165,5.588 0.648,5.588 ; -0.165,5.613 0.597,5.613 ; -0.165,5.639 0.572,5.639 ; -0.165,5.664 0.521,5.664 ; -0.165,9.728 0.394,9.728 ; -0.14,-0.381 0.47,-0.381 ; -0.14,1.194 1.486,1.194 ; -0.14,5.69 0.495,5.69 ; -0.14,5.715 0.495,5.715 ; -0.14,5.74 0.495,5.74 ; -0.14,5.766 0.495,5.766 ; -0.14,5.791 0.495,5.791 ; -0.14,5.817 0.495,5.817 ; -0.14,5.842 0.495,5.842 ; -0.14,5.867 0.495,5.867 ; -0.14,8.712 1.511,8.712 ; -0.14,9.754 0.419,9.754 ; -0.114,5.893 0.495,5.893 ; -0.114,5.918 0.521,5.918 ; -0.114,5.944 0.521,5.944 ; -0.114,5.969 0.521,5.969 ; -0.114,5.994 0.521,5.994 ; -0.114,6.02 0.521,6.02 ; -0.114,6.045 0.521,6.045 ; -0.114,6.071 0.521,6.071 ; -0.114,6.096 0.521,6.096 ; -0.114,9.779 0.419,9.779 ; -0.089,1.219 1.511,1.219 ; -0.089,3.454 2.502,3.454 ; -0.089,6.121 0.521,6.121 ; -0.089,6.147 0.521,6.147 ; -0.089,6.172 0.521,6.172 ; -0.089,6.198 0.546,6.198 ; -0.089,6.223 0.546,6.223 ; -0.089,6.248 0.546,6.248 ; -0.089,6.274 0.546,6.274 ; -0.089,6.299 0.546,6.299 ; -0.089,6.325 0.546,6.325 ; -0.089,6.477 0.572,6.477 ; -0.089,7.036 0.495,7.036 ; -0.089,9.804 0.445,9.804 ; -0.064,-0.406 0.394,-0.406 ; -0.064,6.35 0.546,6.35 ; -0.064,6.375 0.546,6.375 ; -0.064,6.401 0.546,6.401 ; -0.064,6.426 0.546,6.426 ; -0.064,6.452 0.546,6.452 ; -0.064,8.738 1.613,8.738 ; -0.064,9.83 0.47,9.83 ; -0.038,1.245 1.537,1.245 ; -0.038,9.855 0.495,9.855 ; -0.038,9.881 0.521,9.881 ; -0.013,3.48 2.527,3.48 ; -0.013,9.906 0.546,9.906 ; 0.013,1.27 1.562,1.27 ; 0.013,3.505 2.527,3.505 ; 0.013,3.531 2.553,3.531 ; 0.013,7.061 0.47,7.061 ; 0.013,8.763 1.689,8.763 ; 0.013,9.931 0.572,9.931 ; 0.038,-0.432 0.267,-0.432 ; 0.038,3.556 2.578,3.556 ; 0.038,9.957 0.597,9.957 ; 0.064,3.581 2.603,3.581 ; 0.064,9.982 0.622,9.982 ; 0.089,1.295 1.587,1.295 ; 0.089,3.607 0.953,3.607 ; 0.089,10.008 0.622,10.008 ; 0.114,3.632 0.953,3.632 ; 0.114,7.087 0.419,7.087 ; 0.114,8.788 1.791,8.788 ; 0.114,10.033 0.648,10.033 ; 0.14,3.658 0.953,3.658 ; 0.14,10.058 0.673,10.058 ; 0.165,1.321 0.546,1.321 ; 0.165,3.683 0.978,3.683 ; 0.165,10.084 0.699,10.084 ; 0.165,10.109 0.724,10.109 ; 0.191,3.708 1.003,3.708 ; 0.191,8.814 1.867,8.814 ; 0.191,10.135 0.826,10.135 ; 0.216,3.734 1.029,3.734 ; 0.216,5.004 1.333,5.004 ; 0.216,10.16 0.902,10.16 ; 0.241,3.759 1.054,3.759 ; 0.241,3.785 1.079,3.785 ; 0.241,4.978 1.359,4.978 ; 0.241,10.185 0.978,10.185 ; 0.267,3.81 1.105,3.81 ; 0.267,8.839 1.943,8.839 ; 0.267,10.211 1.029,10.211 ; 0.292,3.835 1.13,3.835 ; 0.292,4.953 1.359,4.953 ; 0.292,10.236 1.079,10.236 ; 0.318,3.861 1.13,3.861 ; 0.318,4.928 1.384,4.928 ; 0.318,10.262 1.13,10.262 ; 0.318,10.287 1.181,10.287 ; 0.318,10.338 1.257,10.338 ; 0.318,10.363 1.283,10.363 ; 0.318,10.389 1.333,10.389 ; 0.318,10.414 1.359,10.414 ; 0.318,10.439 1.384,10.439 ; 0.318,10.465 1.41,10.465 ; 0.318,10.49 1.435,10.49 ; 0.318,10.516 1.46,10.516 ; 0.343,3.886 1.156,3.886 ; 0.343,4.902 1.384,4.902 ; 0.343,8.865 2.959,8.865 ; 0.343,10.312 1.232,10.312 ; 0.343,10.541 1.486,10.541 ; 0.343,10.566 1.511,10.566 ; 0.343,10.592 1.537,10.592 ; 0.368,3.912 1.181,3.912 ; 0.368,10.617 1.537,10.617 ; 0.368,10.643 1.562,10.643 ; 0.368,10.668 1.587,10.668 ; 0.394,3.937 1.206,3.937 ; 0.394,4.877 1.384,4.877 ; 0.394,10.693 1.587,10.693 ; 0.394,10.719 1.613,10.719 ; 0.419,3.962 1.206,3.962 ; 0.419,4.851 1.41,4.851 ; 0.419,8.89 2.959,8.89 ; 0.419,10.744 1.638,10.744 ; 0.445,3.988 1.232,3.988 ; 0.445,4.013 1.257,4.013 ; 0.445,10.77 1.638,10.77 ; 0.445,10.795 1.638,10.795 ; 0.47,4.039 1.257,4.039 ; 0.47,4.826 1.41,4.826 ; 0.47,10.82 1.664,10.82 ; 0.495,4.064 1.283,4.064 ; 0.495,4.801 1.41,4.801 ; 0.495,8.915 2.959,8.915 ; 0.495,10.846 1.664,10.846 ; 0.495,10.871 1.689,10.871 ; 0.521,4.089 1.283,4.089 ; 0.521,4.775 1.41,4.775 ; 0.521,10.897 1.689,10.897 ; 0.546,4.115 1.308,4.115 ; 0.546,10.922 1.689,10.922 ; 0.572,4.14 1.308,4.14 ; 0.572,4.75 1.41,4.75 ; 0.572,8.941 2.959,8.941 ; 0.572,10.947 1.689,10.947 ; 0.597,1.321 1.613,1.321 ; 0.597,4.166 1.333,4.166 ; 0.597,4.724 1.41,4.724 ; 0.597,10.973 1.689,10.973 ; 0.622,1.346 1.638,1.346 ; 0.622,4.191 1.333,4.191 ; 0.622,4.216 1.333,4.216 ; 0.622,4.699 1.41,4.699 ; 0.622,10.998 1.714,10.998 ; 0.648,1.372 1.664,1.372 ; 0.648,4.242 1.359,4.242 ; 0.648,4.267 1.359,4.267 ; 0.648,4.674 1.435,4.674 ; 0.648,8.966 2.959,8.966 ; 0.648,11.024 1.714,11.024 ; 0.673,1.397 1.689,1.397 ; 0.673,4.293 1.384,4.293 ; 0.673,4.318 1.384,4.318 ; 0.673,4.623 1.435,4.623 ; 0.673,4.648 1.435,4.648 ; 0.673,11.049 1.689,11.049 ; 0.699,1.422 1.714,1.422 ; 0.699,4.343 1.384,4.343 ; 0.699,4.369 1.384,4.369 ; 0.699,4.394 1.41,4.394 ; 0.699,4.42 1.41,4.42 ; 0.699,4.521 1.41,4.521 ; 0.699,4.547 1.41,4.547 ; 0.699,4.572 1.435,4.572 ; 0.699,4.597 1.435,4.597 ; 0.724,1.448 1.74,1.448 ; 0.724,4.445 1.41,4.445 ; 0.724,4.47 1.41,4.47 ; 0.724,4.496 1.41,4.496 ; 0.724,11.074 1.689,11.074 ; 0.749,1.473 1.765,1.473 ; 0.749,8.992 2.959,8.992 ; 0.749,11.1 1.689,11.1 ; 0.775,1.499 1.791,1.499 ; 0.775,11.125 1.689,11.125 ; 0.8,1.524 1.816,1.524 ; 0.826,1.549 1.841,1.549 ; 0.826,9.017 2.959,9.017 ; 0.826,11.151 1.689,11.151 ; 0.851,1.575 1.867,1.575 ; 0.851,11.176 1.664,11.176 ; 0.876,1.6 1.892,1.6 ; 0.902,1.626 1.918,1.626 ; 0.902,9.042 2.959,9.042 ; 0.902,11.201 1.638,11.201 ; 0.927,1.651 1.943,1.651 ; 0.953,1.676 1.968,1.676 ; 0.953,11.227 1.613,11.227 ; 0.978,1.702 1.994,1.702 ; 0.978,9.068 2.959,9.068 ; 1.003,1.727 2.019,1.727 ; 1.029,1.753 2.045,1.753 ; 1.029,11.252 1.587,11.252 ; 1.054,1.778 2.07,1.778 ; 1.079,1.803 2.095,1.803 ; 1.079,3.607 2.603,3.607 ; 1.079,9.093 2.934,9.093 ; 1.079,11.278 1.562,11.278 ; 1.105,1.829 2.121,1.829 ; 1.13,1.854 2.146,1.854 ; 1.156,1.88 2.172,1.88 ; 1.156,9.119 2.934,9.119 ; 1.181,1.905 2.197,1.905 ; 1.181,11.303 1.486,11.303 ; 1.206,1.93 2.222,1.93 ; 1.232,1.956 2.248,1.956 ; 1.232,3.632 2.629,3.632 ; 1.232,9.144 2.934,9.144 ; 1.257,1.981 2.273,1.981 ; 1.257,11.328 1.435,11.328 ; 1.283,2.007 2.299,2.007 ; 1.308,2.032 2.324,2.032 ; 1.333,2.057 2.349,2.057 ; 1.333,9.169 2.908,9.169 ; 1.359,2.083 2.375,2.083 ; 1.384,2.108 2.4,2.108 ; 1.41,2.134 2.426,2.134 ; 1.41,3.658 2.629,3.658 ; 1.41,9.195 2.883,9.195 ; 1.435,2.159 2.451,2.159 ; 1.46,2.184 2.476,2.184 ; 1.486,2.21 2.502,2.21 ; 1.486,9.22 2.883,9.22 ; 1.511,2.235 2.527,2.235 ; 1.537,2.261 2.553,2.261 ; 1.562,2.286 2.578,2.286 ; 1.562,9.246 2.857,9.246 ; 1.587,2.311 2.603,2.311 ; 1.587,3.683 2.654,3.683 ; 1.613,2.337 2.629,2.337 ; 1.638,2.362 2.654,2.362 ; 1.638,9.271 2.832,9.271 ; 1.664,2.388 2.68,2.388 ; 1.689,2.413 2.705,2.413 ; 1.714,2.438 2.73,2.438 ; 1.74,2.464 2.756,2.464 ; 1.74,3.708 2.68,3.708 ; 1.74,9.296 2.807,9.296 ; 1.765,2.489 2.781,2.489 ; 1.791,2.515 2.807,2.515 ; 1.791,3.734 2.68,3.734 ; 1.816,2.54 2.832,2.54 ; 1.816,3.759 2.705,3.759 ; 1.816,9.322 2.781,9.322 ; 1.841,2.565 2.857,2.565 ; 1.867,2.591 2.883,2.591 ; 1.867,3.785 2.705,3.785 ; 1.892,2.616 2.908,2.616 ; 1.892,3.81 2.73,3.81 ; 1.892,9.347 2.73,9.347 ; 1.918,2.642 2.934,2.642 ; 1.918,2.667 2.959,2.667 ; 1.918,3.835 2.73,3.835 ; 1.918,3.861 2.73,3.861 ; 1.943,2.692 2.984,2.692 ; 1.943,3.886 2.73,3.886 ; 1.968,2.718 3.01,2.718 ; 1.968,3.912 2.756,3.912 ; 1.968,3.937 2.756,3.937 ; 1.968,9.373 2.68,9.373 ; 1.994,2.743 3.035,2.743 ; 1.994,3.962 2.756,3.962 ; 1.994,3.988 2.781,3.988 ; 1.994,4.013 2.781,4.013 ; 1.994,4.039 2.781,4.039 ; 1.994,4.064 2.781,4.064 ; 1.994,4.089 2.781,4.089 ; 1.994,4.115 2.781,4.115 ; 1.994,4.14 2.781,4.14 ; 1.994,4.166 2.781,4.166 ; 1.994,4.191 2.781,4.191 ; 1.994,4.216 2.781,4.216 ; 2.019,2.769 3.061,2.769 ; 2.019,4.242 2.807,4.242 ; 2.019,4.267 2.807,4.267 ; 2.019,4.293 2.807,4.293 ; 2.019,4.318 2.807,4.318 ; 2.019,4.343 2.807,4.343 ; 2.019,4.369 2.807,4.369 ; 2.019,4.394 2.807,4.394 ; 2.019,4.42 2.807,4.42 ; 2.019,4.445 2.807,4.445 ; 2.019,4.47 2.807,4.47 ; 2.019,4.496 2.807,4.496 ; 2.019,4.521 2.807,4.521 ; 2.019,4.547 2.807,4.547 ; 2.019,4.572 2.807,4.572 ; 2.019,4.597 2.807,4.597 ; 2.019,4.623 2.807,4.623 ; 2.019,4.648 2.807,4.648 ; 2.019,4.674 2.807,4.674 ; 2.045,2.794 3.086,2.794 ; 2.045,4.699 2.807,4.699 ; 2.045,4.724 2.807,4.724 ; 2.045,4.75 2.807,4.75 ; 2.045,4.775 2.807,4.775 ; 2.045,4.801 2.807,4.801 ; 2.045,4.826 2.807,4.826 ; 2.045,4.851 2.807,4.851 ; 2.045,4.877 2.807,4.877 ; 2.045,4.902 2.807,4.902 ; 2.045,4.928 2.807,4.928 ; 2.045,4.953 2.807,4.953 ; 2.045,4.978 2.832,4.978 ; 2.045,5.004 2.832,5.004 ; 2.045,5.029 2.832,5.029 ; 2.045,5.055 2.832,5.055 ; 2.045,5.08 2.832,5.08 ; 2.045,5.105 2.832,5.105 ; 2.045,5.131 2.832,5.131 ; 2.045,5.156 2.832,5.156 ; 2.07,2.819 3.111,2.819 ; 2.07,5.182 2.832,5.182 ; 2.07,5.207 2.832,5.207 ; 2.07,5.232 2.832,5.232 ; 2.07,5.258 2.832,5.258 ; 2.07,5.283 2.832,5.283 ; 2.07,5.309 2.832,5.309 ; 2.07,5.334 2.832,5.334 ; 2.07,5.359 2.832,5.359 ; 2.07,5.385 2.832,5.385 ; 2.07,5.41 2.832,5.41 ; 2.07,5.436 2.832,5.436 ; 2.07,5.461 4.331,5.461 ; 2.07,5.486 4.305,5.486 ; 2.07,5.512 4.28,5.512 ; 2.07,5.537 4.255,5.537 ; 2.07,5.563 4.229,5.563 ; 2.07,5.588 4.178,5.588 ; 2.07,5.613 4.153,5.613 ; 2.07,9.398 2.629,9.398 ; 2.095,2.845 3.137,2.845 ; 2.095,5.639 4.102,5.639 ; 2.095,5.664 4.051,5.664 ; 2.095,5.69 4.026,5.69 ; 2.095,5.715 3.975,5.715 ; 2.095,5.74 3.95,5.74 ; 2.095,5.766 3.899,5.766 ; 2.095,5.791 3.873,5.791 ; 2.095,5.817 3.823,5.817 ; 2.095,5.842 3.772,5.842 ; 2.095,5.867 3.746,5.867 ; 2.095,5.893 3.696,5.893 ; 2.095,5.918 3.645,5.918 ; 2.095,5.944 3.619,5.944 ; 2.095,5.969 3.569,5.969 ; 2.095,5.994 3.543,5.994 ; 2.095,6.02 3.492,6.02 ; 2.095,6.045 3.442,6.045 ; 2.095,6.071 3.416,6.071 ; 2.095,6.096 3.365,6.096 ; 2.121,2.87 3.162,2.87 ; 2.121,6.121 3.315,6.121 ; 2.121,6.147 3.289,6.147 ; 2.121,6.172 3.238,6.172 ; 2.121,6.198 3.213,6.198 ; 2.121,6.223 3.162,6.223 ; 2.121,6.248 3.111,6.248 ; 2.121,6.274 3.086,6.274 ; 2.121,6.299 3.035,6.299 ; 2.121,6.325 3.01,6.325 ; 2.121,6.35 2.959,6.35 ; 2.121,6.375 2.908,6.375 ; 2.121,6.401 2.883,6.401 ; 2.121,6.426 2.883,6.426 ; 2.121,6.452 2.883,6.452 ; 2.121,6.477 2.883,6.477 ; 2.121,6.502 2.883,6.502 ; 2.146,2.896 3.188,2.896 ; 2.146,6.528 2.883,6.528 ; 2.146,6.553 2.883,6.553 ; 2.146,6.579 2.883,6.579 ; 2.146,6.604 2.883,6.604 ; 2.146,6.629 2.883,6.629 ; 2.146,6.655 2.883,6.655 ; 2.146,6.68 2.883,6.68 ; 2.146,6.706 2.883,6.706 ; 2.146,6.731 2.883,6.731 ; 2.146,6.756 2.883,6.756 ; 2.146,6.782 2.883,6.782 ; 2.146,6.807 2.883,6.807 ; 2.146,6.833 2.883,6.833 ; 2.146,6.858 2.883,6.858 ; 2.146,6.883 2.883,6.883 ; 2.146,6.909 2.883,6.909 ; 2.146,6.934 2.883,6.934 ; 2.146,6.96 2.883,6.96 ; 2.146,8.839 2.959,8.839 ; 2.172,2.921 3.213,2.921 ; 2.172,6.985 2.908,6.985 ; 2.172,7.01 2.908,7.01 ; 2.172,7.036 2.908,7.036 ; 2.172,7.061 2.908,7.061 ; 2.172,7.087 2.908,7.087 ; 2.172,7.112 2.908,7.112 ; 2.172,7.137 2.908,7.137 ; 2.172,7.163 2.908,7.163 ; 2.172,7.188 2.908,7.188 ; 2.172,7.214 2.908,7.214 ; 2.172,7.239 2.908,7.239 ; 2.172,7.264 2.908,7.264 ; 2.172,7.29 2.908,7.29 ; 2.172,7.315 2.908,7.315 ; 2.172,7.341 2.908,7.341 ; 2.172,7.366 2.908,7.366 ; 2.172,9.423 2.527,9.423 ; 2.197,2.946 3.238,2.946 ; 2.197,7.391 2.908,7.391 ; 2.197,7.417 2.908,7.417 ; 2.197,7.442 2.908,7.442 ; 2.197,7.468 2.908,7.468 ; 2.197,7.493 2.908,7.493 ; 2.197,7.518 2.908,7.518 ; 2.197,7.544 2.908,7.544 ; 2.197,7.569 2.908,7.569 ; 2.197,7.595 2.908,7.595 ; 2.197,7.62 2.908,7.62 ; 2.197,7.645 2.908,7.645 ; 2.197,7.671 2.908,7.671 ; 2.197,7.696 2.934,7.696 ; 2.197,7.722 2.934,7.722 ; 2.197,7.747 2.934,7.747 ; 2.197,7.772 2.934,7.772 ; 2.197,7.798 2.934,7.798 ; 2.197,7.823 2.934,7.823 ; 2.197,8.814 2.959,8.814 ; 2.222,2.972 3.264,2.972 ; 2.222,7.849 2.934,7.849 ; 2.222,7.874 2.934,7.874 ; 2.222,7.899 2.934,7.899 ; 2.222,7.925 2.934,7.925 ; 2.222,7.95 2.934,7.95 ; 2.222,7.976 2.934,7.976 ; 2.222,8.001 2.934,8.001 ; 2.222,8.026 2.934,8.026 ; 2.222,8.052 2.934,8.052 ; 2.222,8.077 2.934,8.077 ; 2.222,8.103 2.934,8.103 ; 2.222,8.128 2.934,8.128 ; 2.222,8.153 2.934,8.153 ; 2.222,8.179 2.934,8.179 ; 2.222,8.204 2.934,8.204 ; 2.222,8.23 2.934,8.23 ; 2.222,8.255 2.934,8.255 ; 2.222,8.28 2.959,8.28 ; 2.222,8.788 2.959,8.788 ; 2.248,2.997 3.289,2.997 ; 2.248,8.306 2.959,8.306 ; 2.248,8.331 2.959,8.331 ; 2.248,8.357 2.959,8.357 ; 2.248,8.382 2.959,8.382 ; 2.248,8.407 2.959,8.407 ; 2.248,8.433 2.959,8.433 ; 2.248,8.458 2.959,8.458 ; 2.248,8.484 2.959,8.484 ; 2.248,8.509 2.959,8.509 ; 2.248,8.534 2.959,8.534 ; 2.248,8.56 2.959,8.56 ; 2.248,8.585 2.959,8.585 ; 2.248,8.611 2.959,8.611 ; 2.248,8.636 2.959,8.636 ; 2.248,8.661 2.959,8.661 ; 2.248,8.687 2.959,8.687 ; 2.248,8.712 2.959,8.712 ; 2.248,8.738 2.959,8.738 ; 2.248,8.763 2.959,8.763 ; 2.273,3.023 3.315,3.023 ; 2.299,3.048 3.34,3.048 ; 2.324,3.073 3.365,3.073 ; 2.349,3.099 3.391,3.099 ; 2.375,3.124 3.416,3.124 ; 2.4,3.15 3.442,3.15 ; 2.426,3.175 3.467,3.175 ; 2.451,3.2 3.492,3.2 ; 2.476,3.226 3.518,3.226 ; 2.502,3.251 3.543,3.251 ; 2.527,3.277 3.569,3.277 ; 2.553,3.302 3.594,3.302 ; 2.578,3.327 3.619,3.327 ; 2.603,3.353 3.645,3.353 ; 2.629,3.378 3.67,3.378 ; 2.654,3.404 3.696,3.404 ; 2.68,3.429 3.721,3.429 ; 2.705,3.454 3.746,3.454 ; 2.73,3.48 3.772,3.48 ; 2.756,3.505 3.797,3.505 ; 2.781,3.531 3.823,3.531 ; 2.807,3.556 3.848,3.556 ; 2.832,3.581 3.873,3.581 ; 2.857,3.607 3.899,3.607 ; 2.883,3.632 3.924,3.632 ; 2.908,3.658 3.95,3.658 ; 2.908,5.436 4.381,5.436 ; 2.934,3.683 3.975,3.683 ; 2.959,3.708 4,3.708 ; 2.959,5.41 4.381,5.41 ; 2.984,3.734 4.026,3.734 ; 2.984,5.385 4.407,5.385 ; 3.01,3.759 4.051,3.759 ; 3.035,3.785 4.077,3.785 ; 3.035,5.359 4.432,5.359 ; 3.061,3.81 4.102,3.81 ; 3.061,5.334 4.458,5.334 ; 3.086,3.835 4.127,3.835 ; 3.086,5.309 4.458,5.309 ; 3.111,3.861 4.153,3.861 ; 3.137,3.886 4.178,3.886 ; 3.137,5.283 4.483,5.283 ; 3.162,3.912 4.204,3.912 ; 3.162,5.258 4.508,5.258 ; 3.188,3.937 4.229,3.937 ; 3.213,3.962 4.229,3.962 ; 3.213,5.232 4.508,5.232 ; 3.238,3.988 4.255,3.988 ; 3.264,4.013 4.28,4.013 ; 3.264,5.207 4.534,5.207 ; 3.289,4.039 4.305,4.039 ; 3.289,5.182 4.534,5.182 ; 3.315,4.064 4.331,4.064 ; 3.34,4.089 4.356,4.089 ; 3.34,5.156 4.559,5.156 ; 3.365,4.115 4.356,4.115 ; 3.365,4.14 4.381,4.14 ; 3.365,5.131 4.559,5.131 ; 3.416,4.166 4.407,4.166 ; 3.416,4.191 4.407,4.191 ; 3.416,5.105 4.559,5.105 ; 3.442,4.216 4.432,4.216 ; 3.442,5.08 4.585,5.08 ; 3.467,4.242 4.458,4.242 ; 3.492,4.267 4.458,4.267 ; 3.492,5.055 4.585,5.055 ; 3.518,4.293 4.483,4.293 ; 3.518,5.029 4.585,5.029 ; 3.543,4.318 4.483,4.318 ; 3.569,4.343 4.508,4.343 ; 3.569,5.004 4.585,5.004 ; 3.594,4.369 4.508,4.369 ; 3.594,4.978 4.61,4.978 ; 3.619,4.394 4.534,4.394 ; 3.619,4.953 4.61,4.953 ; 3.645,4.42 4.534,4.42 ; 3.645,4.445 4.534,4.445 ; 3.645,4.928 4.61,4.928 ; 3.67,4.47 4.559,4.47 ; 3.67,4.496 4.559,4.496 ; 3.67,4.902 4.61,4.902 ; 3.696,4.521 4.559,4.521 ; 3.696,4.547 4.585,4.547 ; 3.696,4.851 4.61,4.851 ; 3.696,4.877 4.61,4.877 ; 3.721,4.572 4.585,4.572 ; 3.721,4.597 4.585,4.597 ; 3.721,4.623 4.585,4.623 ; 3.721,4.648 4.61,4.648 ; 3.721,4.75 4.61,4.75 ; 3.721,4.775 4.61,4.775 ; 3.721,4.801 4.61,4.801 ; 3.721,4.826 4.61,4.826 ; 3.746,4.674 4.61,4.674 ; 3.746,4.699 4.61,4.699 ; 3.746,4.724 4.61,4.724
Bottom Solder:
  drawing of 1370 lines, arcs and shapes, not listed